# EAGLE library part AL9910S-13 (library Diodes_Inc_By_element14_Batch_1)
BRIGHTNESS LED
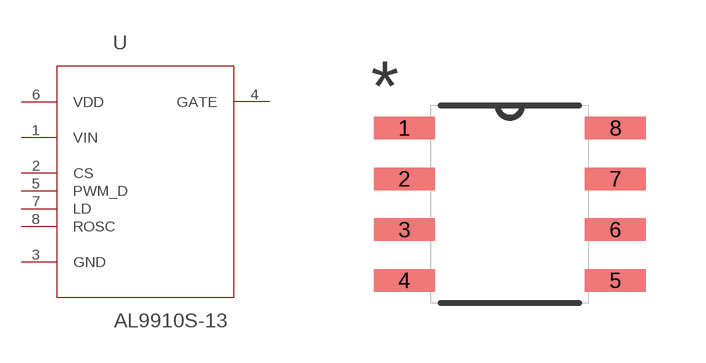
[diagram p13: symbol with the pads of SOIC127P600X175-8N; footprint SOIC127P600X175-8N]

Designator prefix U

## AL9910S-13 (MPN: AL9910S-13; OC_FARNELL: 1904038; OC_NEWARK: 55T1756; PACKAGE: SOIC-8; SUPPLIER: DIODES INC.)  [SOIC127P600X175-8N]
1  VIN  pwr
2  CS  in
3  GND  pas
4  GATE  pas
5  PWM_D  in
6  VDD  pwr
7  LD  in
8  ROSC  in

## Footprint SOIC127P600X175-8N (pad centres in mm)
smd 1.524 x 0.559: 1 -2.642,1.905; 2 -2.642,0.635; 3 -2.642,-0.635; 4 -2.642,-1.905; 5 2.642,-1.905; 6 2.642,-0.635; 7 2.642,0.635; 8 2.642,1.905